# EAGLE library part SP3002-SC-70-6 (library Diode-USB)
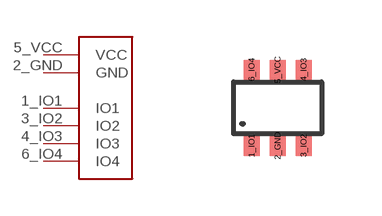
[diagram p0: symbol with the pads of SC-70-6; footprint SC-70-6]

Designator prefix -

## SP3002-SC-70-6  [SC-70-6]
1_IO1  IO1
2_GND  GND
3_IO2  IO2
4_IO3  IO3
5_VCC  VCC
6_IO4  IO4

## Footprint SC-70-6 (pad centres in mm)
smd 0.4 x 0.5: 1_IO1 -0.65,-0.95; 2_GND 0,-0.95; 3_IO2 0.65,-0.95; 4_IO3 0.65,0.95; 5_VCC 0,0.95; 6_IO4 -0.65,0.95